# Altium footprint library 691137710003.PcbLib: 1 footprints
Each footprint in its own frame and in the unit in brackets; x right, y up, seen from the top. Pads: shape width x height; smd on the part's side, far side on the other; paste and mask are expansions set on the pad; w line width, h text height; cw(c..) or ccw(c..) is an arc to the next point about the centre after c.
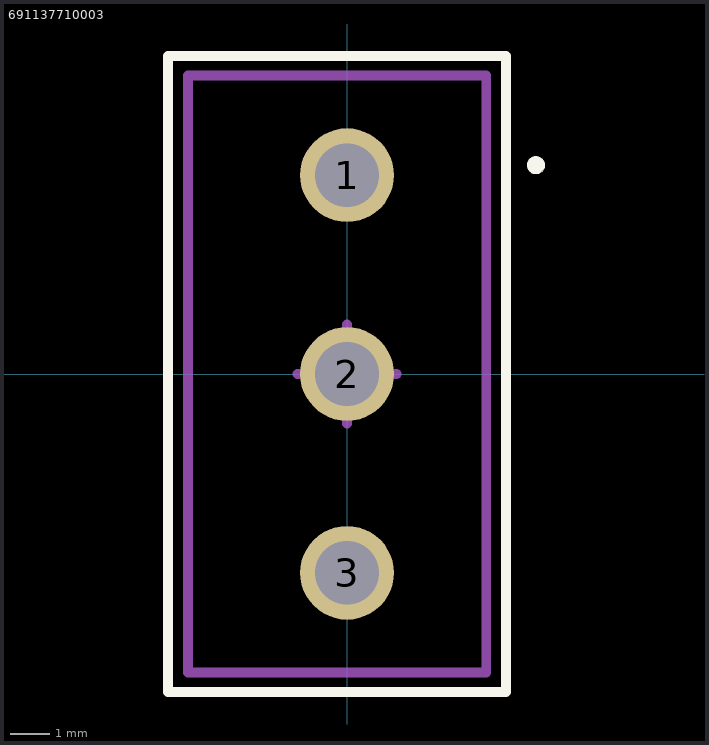
[diagram p0: the footprint, top view; thin cyan lines are the x and y axes]

## 691137710003 [mm]
pads (3):
  round 2.358 hole 1.6 mask+0.051: 1(0,5) 2(0,0) 3(0,-5)
Top Overlay:
  circle w0.254: c4.75,5.25 r0.1
  lines w0.25: -4.5,-8 4,-8 4,8 -4.5,8 -4.5,-8
Mechanical 13:
  lines w0.25: -4,-7.5 3.5,-7.5 3.5,7.5 -4,7.5 -4,-7.5
Mechanical 15:
  lines w0.25: -1.25,0 0,0 ; 0,-1.25 0,0 ; 0,1.25 0,0 ; 1.25,0 0,0
3D body "691137710003.STEP": height 12.75, standoff -2.35, extent -4,-7.5 3.5,7.5